# Altium schematic symbol library LMR33620.SchLib: 1 symbol
Pins are listed as number, name and electrical type; pins without a type are passive.

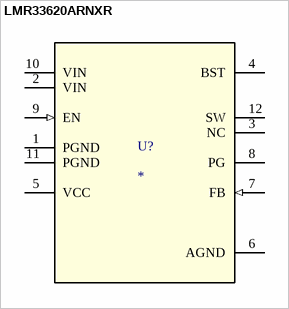
[diagram p0: symbol LMR33620ARNXR]

## LMR33620ARNXR
designator U?
Imported; PartNumber: LMR33620ARNXR; Manufacturer: Texas Instruments; RefDes: RefDes; TYPE: TYPE; Value: Value
footprint RNX0012B
pins: 1 PGND (power), 2 VIN (power), 3 NC, 4 BST, 5 VCC (power), 6 AGND (power), 7 FB (in), 8 PG (oc), 9 EN (in), 10 VIN (power), 11 PGND (power), 12 SW (power)